# EAGLE library part ATMEGA328 (library Fortech)
ATMEGA 328 Features: ATmega48PA, ATmega88PA, ATmega168PA, ATmega328P. High Performance, Low Power AVR 8-Bit Microcontroller Advanced RISC Architecture 131 Powerful Instructions – Most Single Clock Cycle Execution 32 x 8 General Purpose Working Registers Fully Static Operation Up to 20 MIPS Throughput at 20 MHz On-chip 2-cycle Multiplier High Endurance Non-volatile Memory Segments 4/8/16/32K Bytes of In-System Self-Programmable Flash progam memory 256/512/512/1K Bytes EEPROM (ATmega48PA/88PA/168PA/328P) 512/1K/1K/2K Bytes Internal SRAM (ATmega48PA/88PA/168PA/328P) Write/Erase Cycles: 10,000 Flash/100,000 EEPROM Data retention: 20 years at 85°C/100 years at 25°C Optional Boot Code Section with Independent Lock Bits
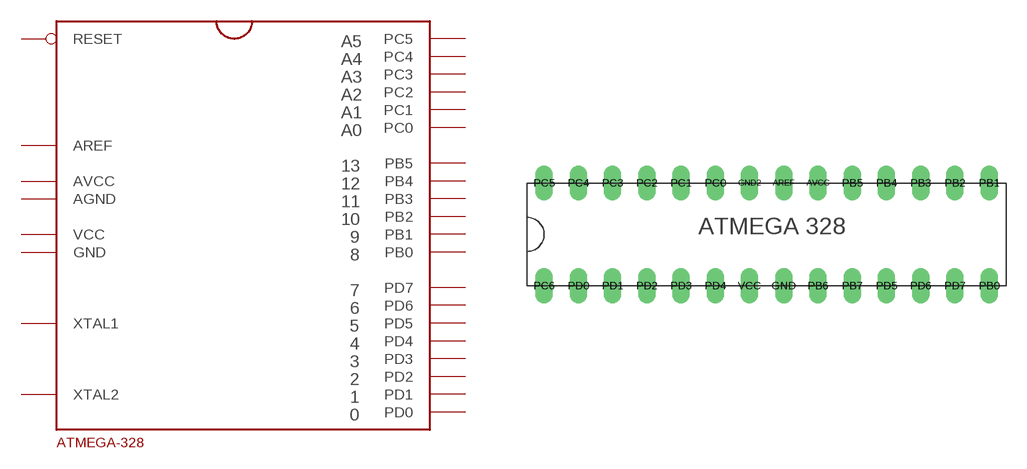
[diagram p4: symbol with the pads of ATMEGA328; footprint ATMEGA328]

Designator prefix -

## ATMEGA328  [ATMEGA328]
AREF  AREF
AVCC  AVCC
GND  GND
GND2  AGND
PB0  PB0
PB1  PB1
PB2  PB2
PB3  PB3
PB4  PB4
PB5  PB5
PB6  XTAL2
PB7  XTAL1
PC0  PC0
PC1  PC1
PC2  PC2
PC3  PC3
PC4  PC4
PC5  PC5
PC6  RESET
PD0  PD0
PD1  PD1
PD2  PD2
PD3  PD3
PD4  PD4
PD5  PD5
PD6  PD6
PD7  PD7
VCC  VCC

## Footprint ATMEGA328 (pad centres in mm)
drill 0.8 long: AREF 1.27,3.81; AVCC 3.81,3.81; GND 1.27,-3.81; GND2 -1.27,3.81; PB0 16.51,-3.81; PB1 16.51,3.81; PB2 13.97,3.81; PB3 11.43,3.81; PB4 8.89,3.81; PB5 6.35,3.81; PB6 3.81,-3.81; PB7 6.35,-3.81; PC0 -3.81,3.81; PC1 -6.35,3.81; PC2 -8.89,3.81; PC3 -11.43,3.81; PC4 -13.97,3.81; PC5 -16.51,3.81; PC6 -16.51,-3.81; PD0 -13.97,-3.81; PD1 -11.43,-3.81; PD2 -8.89,-3.81; PD3 -6.35,-3.81; PD4 -3.81,-3.81; PD5 8.89,-3.81; PD6 11.43,-3.81; PD7 13.97,-3.81; VCC -1.27,-3.81